# Altium footprint library VolcDB_B.PcbLib: 25 footprints (part 2 of 2)
Each footprint in its own frame and in the unit in brackets; x right, y up, seen from the top. Pads: shape width x height; smd on the part's side, far side on the other; paste and mask are expansions set on the pad; w line width, h text height; cw(c..) or ccw(c..) is an arc to the next point about the centre after c.
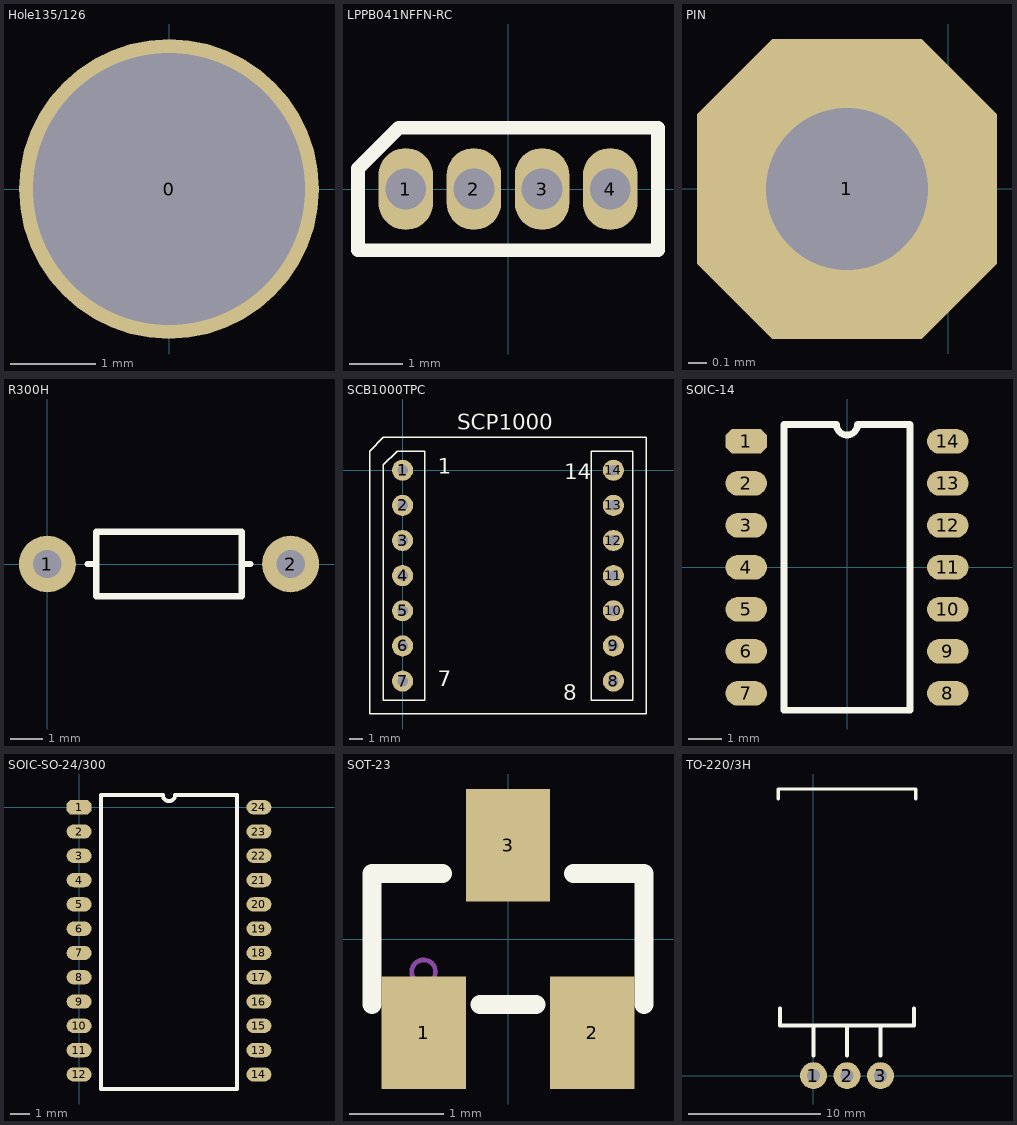
[diagram p1: the footprints below, top view; thin cyan lines are the x and y axes]

## Hole135/126 [mm]
pads (1):
  round 3.5 hole 3.175: 0(0,0)

## LPPB041NFFN-RC [mil] "Connector 4 pin 1.27mm Sip Vertical"
height 177.17
pads (4):
  oval 40x60 hole 30: 1(-75,0) 2(-25,0) 3(25,0) 4(75,0)
Top Overlay:
  lines w10: -110,-45 -110,15 -80,45 110,45 110,-45 -110,-45
3D body: height 177.17, standoff -118.11, extent 65.16,-2.95 84.84,2.95
3D body: height 177.17, standoff -118.11, extent 15.16,-2.95 34.84,2.95
3D body: height 177.17, standoff -118.11, extent -34.84,-2.95 -15.16,2.95
3D body: height 177.17, standoff -118.11, extent -84.84,-2.95 -65.16,2.95
3D body: height 177.17, standoff 0, extent -108.27,-42.32 108.27,42.32

## PIN [mil]
pads (1):
  oct 65x65 hole 35: 1(-21.89,0)

## R300H [mil]
pads (2):
  round 70 hole 35: 1(0,0) 2(300,0)
Top Overlay:
  lines w8: 50,0 60,0 ; 240,0 250,0 ; 60,-40 240,-40 240,40 60,40 60,-40

## SCB1000TPC [mil] "Pressure sensor module"
height 118.11
pads (14):
  round 60 hole 30: 1(0,0) 2(0,-100) 3(0,-200) 4(0,-300) 5(0,-400) 6(0,-500) 7(0,-600) 8(600,-600) 9(600,-500) 10(600,-400) 11(600,-300) 12(600,-200) 13(600,-100) 14(600,0)
Top Overlay:
  lines w4: -93.7,-693.7 -93.7,54.33 -54.33,93.7 693.7,93.7 693.7,-693.7 -93.7,-693.7 ; -54.33,-654.33 -54.33,14.96 -14.96,54.33 63.78,54.33 63.78,-654.33 -54.33,-654.33 ; 536.22,-654.33 536.22,54.33 654.33,54.33 654.33,-654.33 536.22,-654.33
  text "8" at 457.48,-654.33 h45
  text "7" at 100,-615 h45
  text "14" at 460,-25 h45
  text "1" at 100,-10 h45
  text "SCP1000" at 155,115 h45
3D body: height 137.8, standoff 78.74, extent -93.7,-693.7 693.7,93.7
3D body: height 204.72, standoff 137.8, extent 181.89,-418.11 432.86,-166.64
3D body: height 78.74, standoff -78.74, extent -11.76,-12 11.76,11.58
3D body: height 78.74, standoff -78.74, extent -11.76,-112 11.76,-88.42
3D body: height 78.74, standoff -78.74, extent -11.76,-212 11.76,-188.42
3D body: height 78.74, standoff -78.74, extent -11.76,-312 11.76,-288.42
3D body: height 78.74, standoff -78.74, extent -11.76,-412 11.76,-388.42
3D body: height 78.74, standoff -78.74, extent -11.76,-512 11.76,-488.42
3D body: height 78.74, standoff -78.74, extent -11.76,-612 11.76,-588.42
3D body: height 78.74, standoff -78.74, extent 588.24,-612 611.76,-588.42
3D body: height 78.74, standoff -78.74, extent 588.24,-512 611.76,-488.42
3D body: height 78.74, standoff -78.74, extent 588.24,-412 611.76,-388.42
3D body: height 78.74, standoff -78.74, extent 588.24,-312 611.76,-288.42
3D body: height 78.74, standoff -78.74, extent 588.24,-212 611.76,-188.42
3D body: height 78.74, standoff -78.74, extent 588.24,-112 611.76,-88.42
3D body: height 78.74, standoff -78.74, extent 588.24,-12 611.76,11.58

## SOIC-14 [mm]
height 8.636
pads (14):
  oct 1.25x0.75 smd: 1(-3.048,3.81)
  oval 1.25x0.75 smd: 2(-3.048,2.54) 3(-3.048,1.27) 4(-3.048,0) 5(-3.048,-1.27) 6(-3.048,-2.54) 7(-3.048,-3.81) 8(3.048,-3.81) 9(3.048,-2.54) 10(3.048,-1.27) 11(3.048,0) 12(3.048,1.27) 13(3.048,2.54) 14(3.048,3.81)
Top Overlay:
  lines w0.203: -1.905,-4.318 1.905,-4.318 1.905,4.318 0.318,4.318 cw(c0,4.318) -0.318,4.318 -1.905,4.318 -1.905,-4.318
3D body: height 1.02, standoff 0.76, extent 1.905,3.556 2.54,4.064
3D body: height 1.02, standoff 0, extent 2.54,3.556 2.667,4.064
3D body: height 0.25, standoff 0, extent 2.667,3.556 3.175,4.064
3D body: height 0.25, standoff 0, extent 2.667,2.286 3.175,2.794
3D body: height 1.02, standoff 0, extent 2.54,2.286 2.667,2.794
3D body: height 1.02, standoff 0.76, extent 1.905,2.286 2.54,2.794
3D body: height 0.25, standoff 0, extent 2.667,1.016 3.175,1.524
3D body: height 1.02, standoff 0, extent 2.54,1.016 2.667,1.524
3D body: height 1.02, standoff 0.76, extent 1.905,1.016 2.54,1.524
3D body: height 0.25, standoff 0, extent 2.667,-0.254 3.175,0.254
3D body: height 1.02, standoff 0, extent 2.54,-0.254 2.667,0.254
3D body: height 1.02, standoff 0.76, extent 1.905,-0.254 2.54,0.254
3D body: height 0.25, standoff 0, extent 2.667,-1.524 3.175,-1.016
3D body: height 1.02, standoff 0, extent 2.54,-1.524 2.667,-1.016
3D body: height 1.02, standoff 0.76, extent 1.905,-1.524 2.54,-1.016
3D body: height 0.25, standoff 0, extent 2.667,-2.794 3.175,-2.286
3D body: height 1.02, standoff 0, extent 2.54,-2.794 2.667,-2.286
3D body: height 1.02, standoff 0.76, extent 1.905,-2.794 2.54,-2.286
3D body: height 0.25, standoff 0, extent 2.667,-4.064 3.175,-3.556
3D body: height 1.02, standoff 0, extent 2.54,-4.064 2.667,-3.556
3D body: height 1.02, standoff 0.76, extent 1.905,-4.064 2.54,-3.556
3D body: height 1.02, standoff 0.76, extent -2.54,-4.064 -1.905,-3.556
3D body: height 1.02, standoff 0, extent -2.667,-4.064 -2.54,-3.556
3D body: height 0.25, standoff 0, extent -3.175,-4.064 -2.667,-3.556
3D body: height 1.02, standoff 0.76, extent -2.54,-2.794 -1.905,-2.286
3D body: height 1.02, standoff 0, extent -2.667,-2.794 -2.54,-2.286
3D body: height 0.25, standoff 0, extent -3.175,-2.794 -2.667,-2.286
3D body: height 1.02, standoff 0.76, extent -2.54,-1.524 -1.905,-1.016
3D body: height 1.02, standoff 0, extent -2.667,-1.524 -2.54,-1.016
3D body: height 0.25, standoff 0, extent -3.175,-1.524 -2.667,-1.016
3D body: height 1.02, standoff 0.76, extent -2.54,-0.254 -1.905,0.254
3D body: height 1.02, standoff 0, extent -2.667,-0.254 -2.54,0.254
3D body: height 0.25, standoff 0, extent -3.175,-0.254 -2.667,0.254
3D body: height 1.02, standoff 0.76, extent -2.54,1.016 -1.905,1.524
3D body: height 1.02, standoff 0, extent -2.667,1.016 -2.54,1.524
3D body: height 0.25, standoff 0, extent -3.175,1.016 -2.667,1.524
3D body: height 1.02, standoff 0.76, extent -2.54,2.286 -1.905,2.794
3D body: height 1.02, standoff 0, extent -2.667,2.286 -2.54,2.794
3D body: height 0.25, standoff 0, extent -3.175,2.286 -2.667,2.794
3D body: height 0.25, standoff 0, extent -3.175,3.556 -2.667,4.064
3D body: height 1.02, standoff 0, extent -2.667,3.556 -2.54,4.064
3D body: height 1.02, standoff 0.76, extent -2.54,3.556 -1.905,4.064
3D body: height 1.52, standoff 0.25, extent -1.905,-4.318 1.905,4.318

## SOIC-SO-24/300 [mm]
height 8.636
pads (24):
  oct 1.3x0.75 smd: 1(0,0)
  oval 1.3x0.75 smd: 2(0,-1.27) 3(0,-2.54) 4(0,-3.81) 5(0,-5.08) 6(0,-6.35) 7(0,-7.62) 8(0,-8.89) 9(0,-10.16) 10(0,-11.43) 11(0,-12.7) 12(0,-13.97) 13(9.398,-12.7) 14(9.398,-13.97) 15(9.398,-11.43) 16(9.398,-10.16) 17(9.398,-8.89) 18(9.398,-7.62) 19(9.398,-6.35) 20(9.398,-5.08) 21(9.398,-3.81) 22(9.398,-2.54) 23(9.398,-1.27) 24(9.398,0)
Top Overlay:
  lines w0.203: 4.318,0.635 1.143,0.635 1.143,-14.732 8.255,-14.732 8.255,0.635 5.08,0.635 ; 4.381,0.635 ccw(c4.699,0.635) 5.016,0.635
3D body: height 3.17, standoff 0, extent 1.041,-14.834 8.357,0.737

## SOT-23 [mm]
height 0.5
pads (3):
  rect 0.9x1.2 smd: 1(-0.9,-1) 2(0.9,-1) 3(0,1)
Top Overlay:
  lines w0.203: -1.45,-0.7 -1.45,0.7 -0.7,0.7 ; -0.3,-0.7 0.3,-0.7 ; 0.7,0.7 1.45,0.7 1.45,-0.7
Mechanical 15:
  circle w0.051: c-0.9,-0.35 r0.127
3D body: height 1.1, standoff 1, extent -1.026,-0.477 -0.774,-0.224
3D body: height 0.15, standoff 0, extent -0.15,0.95 0.15,1.2
3D body: height 0.5, standoff 0, extent -0.15,0.825 0.15,0.95
3D body: height 0.5, standoff 0.35, extent -0.15,0.7 0.15,0.825
3D body: height 0.15, standoff 0, extent 0.75,-1.2 1.05,-0.95
3D body: height 0.5, standoff 0, extent 0.75,-0.95 1.05,-0.825
3D body: height 0.5, standoff 0.35, extent 0.75,-0.825 1.05,-0.7
3D body: height 0.5, standoff 0.35, extent -1.05,-0.825 -0.75,-0.7
3D body: height 0.5, standoff 0, extent -1.05,-0.95 -0.75,-0.825
3D body: height 0.15, standoff 0, extent -1.05,-1.2 -0.75,-0.95
3D body: height 1, standoff 0.1, extent -1.45,-0.7 1.45,0.7

## TO-220/3H [mil]
pads (3):
  round 80 hole 40: 1(0,0) 2(100,0) 3(200,0)
Top Overlay:
  lines w10: -105,825 -105,855 305,855 305,825
  lines w12: -100,200 -100,150 300,150 300,200 ; 0,60 0,150 ; 100,60 100,150 ; 200,60 200,150
Top Solder:
  rectangle: -100,250 300,850